# Altium integrated library Maxim Video Buffer Amplifier.IntLib: 8 symbols
Pins are listed as number, name and electrical type; pins without a type are passive.

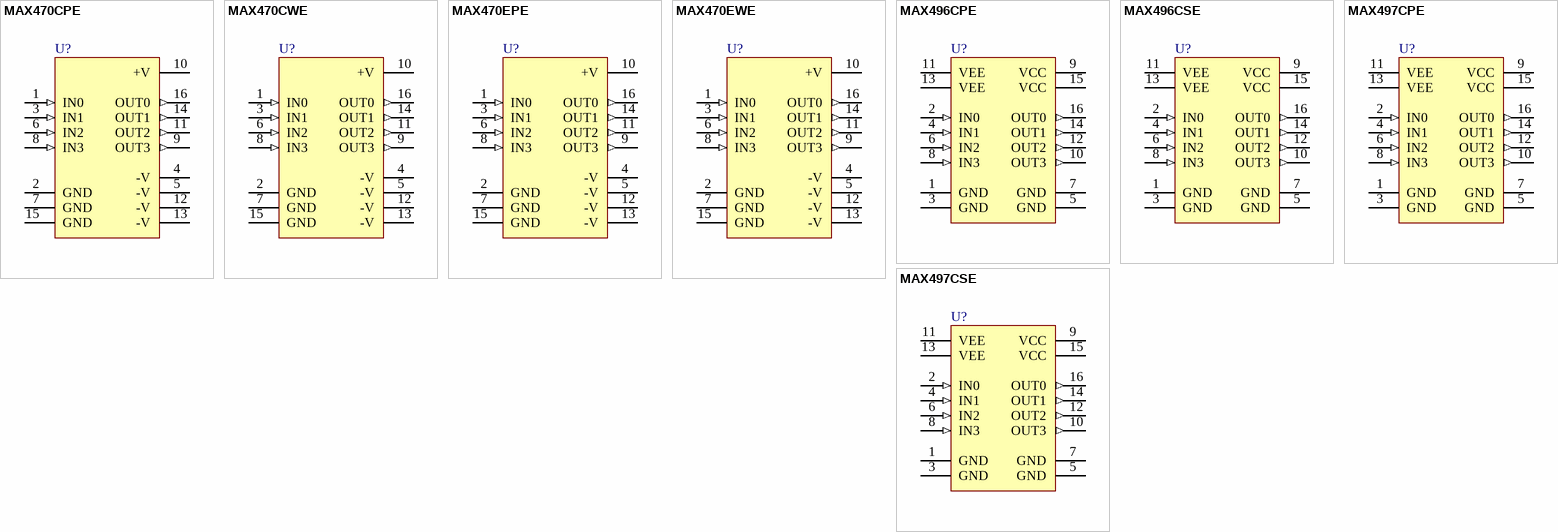
[diagram p0: symbols MAX470CPE to MAX497CSE]

## MAX470CPE
designator U?
Two-Channel, Quad RGB Video Switch and Buffer; Published: 16-Jan-2001; LatestRevisionDate: 29-May-2009; LatestRevisionNote: Component Body Added.; DatasheetVersion: Jun-1994; PackageVersion: 1997; PackageReference: PE16A; Publisher: Altium Limited; PackageDescription: DIP, 16-Pin, Row Spacing 7.62 mm, Pitch 2.54 mm; Code_JEDEC: MS-001-BB; ComponentLink1Description: Manufacturer Link; ComponentLink1URL: http://www.maxim-ic.com/
footprint PE16A (DIP, 16-Leads, Row Spacing 7.62mm, Pitch 2.54mm, Body 19.18x6.99mm)
3D model PE16 (DIP, 16-Pin, Row Spacing 7.62 mm, Pitch 2.54 mm)
pins: 1 IN0 (in), 2 GND (power), 3 IN1 (in), 4 -V (power), 5 -V (power), 6 IN2 (in), 7 GND (power), 8 IN3 (in), 9 OUT3 (out), 10 +V (power), 11 OUT2 (out), 12 -V (power), 13 -V (power), 14 OUT1 (out), 15 GND (power), 16 OUT0 (out)

## MAX470CWE
designator U?
Two-Channel, Quad RGB Video Switch and Buffer; Published: 16-Jan-2001; LatestRevisionDate: 13-Apr-2006; LatestRevisionNote: IPC-7351 Footprint Added.; DatasheetVersion: Jun-1994; PackageReference: WSO16; Publisher: Altium Limited; PackageDescription: 16-Pin Small Outline Integrated Circuit 1.27 mm Pitch; Code_JEDEC: MS-013-AA; Code_IPC: SOIC127P1030-16; ComponentLink1Description: Manufacturer Link; ComponentLink1URL: http://www.maxim-ic.com/
footprint WSO16_N (SOIC, 16-Leads, Body 10.3x7.5mm, Pitch 1.27mm, IPC Medium Density)
footprint WSO16_L (SOIC, 16-Leads, Body 10.3x7.5mm, Pitch 1.27mm, IPC High Density)
footprint WSO16_M (SOIC, 16-Leads, Body 10.3x7.5mm, Pitch 1.27mm, IPC Low Density)
3D model WSO16 (16-Pin Small Outline Integrated Circuit 1.27 mm Pitch)
pins: 1 IN0 (in), 2 GND (power), 3 IN1 (in), 4 -V (power), 5 -V (power), 6 IN2 (in), 7 GND (power), 8 IN3 (in), 9 OUT3 (out), 10 +V (power), 11 OUT2 (out), 12 -V (power), 13 -V (power), 14 OUT1 (out), 15 GND (power), 16 OUT0 (out)

## MAX470EPE
designator U?
Two-Channel, Quad RGB Video Switch and Buffer; Published: 16-Jan-2001; LatestRevisionDate: 29-May-2009; LatestRevisionNote: Component Body Added.; DatasheetVersion: Jun-1994; PackageVersion: 1997; PackageReference: PE16A; Publisher: Altium Limited; PackageDescription: DIP, 16-Pin, Row Spacing 7.62 mm, Pitch 2.54 mm; Code_JEDEC: MS-001-BB; ComponentLink1Description: Manufacturer Link; ComponentLink1URL: http://www.maxim-ic.com/
footprint PE16A (DIP, 16-Leads, Row Spacing 7.62mm, Pitch 2.54mm, Body 19.18x6.99mm)
3D model PE16 (DIP, 16-Pin, Row Spacing 7.62 mm, Pitch 2.54 mm)
pins: 1 IN0 (in), 2 GND (power), 3 IN1 (in), 4 -V (power), 5 -V (power), 6 IN2 (in), 7 GND (power), 8 IN3 (in), 9 OUT3 (out), 10 +V (power), 11 OUT2 (out), 12 -V (power), 13 -V (power), 14 OUT1 (out), 15 GND (power), 16 OUT0 (out)

## MAX470EWE
designator U?
Two-Channel, Quad RGB Video Switch and Buffer; Published: 16-Jan-2001; LatestRevisionDate: 13-Apr-2006; LatestRevisionNote: IPC-7351 Footprint Added.; DatasheetVersion: Jun-1994; PackageReference: WSO16; Publisher: Altium Limited; PackageDescription: 16-Pin Small Outline Integrated Circuit 1.27 mm Pitch; Code_JEDEC: MS-013-AA; Code_IPC: SOIC127P1030-16; ComponentLink1Description: Manufacturer Link; ComponentLink1URL: http://www.maxim-ic.com/
footprint WSO16_N (SOIC, 16-Leads, Body 10.3x7.5mm, Pitch 1.27mm, IPC Medium Density)
footprint WSO16_L (SOIC, 16-Leads, Body 10.3x7.5mm, Pitch 1.27mm, IPC High Density)
footprint WSO16_M (SOIC, 16-Leads, Body 10.3x7.5mm, Pitch 1.27mm, IPC Low Density)
3D model WSO16 (16-Pin Small Outline Integrated Circuit 1.27 mm Pitch)
pins: 1 IN0 (in), 2 GND (power), 3 IN1 (in), 4 -V (power), 5 -V (power), 6 IN2 (in), 7 GND (power), 8 IN3 (in), 9 OUT3 (out), 10 +V (power), 11 OUT2 (out), 12 -V (power), 13 -V (power), 14 OUT1 (out), 15 GND (power), 16 OUT0 (out)

## MAX496CPE
designator U?
Quad Closed-Loop Video Buffer; Published: 23-Sep-2002; LatestRevisionDate: 29-May-2009; LatestRevisionNote: Component Body Added.; DatasheetVersion: Rev 1; 12/98; PackageVersion: Aug-1995; PackageReference: PE16B; Publisher: Altium Limited; PackageDescription: DIP, 16-Pin, Row Spacing 7.62 mm, Pitch 2.54 mm; Code_JEDEC: MS-001-BB; ComponentLink1Description: Manufacturer Link; ComponentLink1URL: http://www.maxim-ic.com/; ComponentLink2Description: Datasheet; ComponentLink2URL: http://pdfserv.maxim-ic.com/en/ds/MAX496-MAX497.pdf
footprint PE16B (DIP, 16-Leads, Row Spacing 7.62mm, Pitch 2.54mm, Body 19.18x6.61mm)
3D model PE16 (DIP, 16-Pin, Row Spacing 7.62 mm, Pitch 2.54 mm)
pins: 1 GND (power), 2 IN0 (in), 3 GND (power), 4 IN1 (in), 5 GND (power), 6 IN2 (in), 7 GND (power), 8 IN3 (in), 9 VCC (power), 10 OUT3 (out), 11 VEE (power), 12 OUT2 (out), 13 VEE (power), 14 OUT1 (out), 15 VCC (power), 16 OUT0 (out)

## MAX496CSE
designator U?
Quad Closed-Loop Video Buffer; Published: 23-Sep-2002; LatestRevisionDate: 13-Apr-2006; LatestRevisionNote: IPC-7351 Footprint Added.; DatasheetVersion: Rev 1; 12/98; PackageReference: NSO16; Publisher: Altium Limited; PackageDescription: 16-Pin Small Outline Integrated Circuit 1.27 mm Pitch; Code_JEDEC: MS-012-AC; Code_IPC: SOIC127P600-16; ComponentLink1Description: Manufacturer Link; ComponentLink1URL: http://www.maxim-ic.com/; ComponentLink2Description: Datasheet; ComponentLink2URL: http://pdfserv.maxim-ic.com/en/ds/MAX496-MAX497.pdf
footprint NSO16_N (SOIC, 16-Leads, Body 9.9x3.9mm, Pitch 1.27mm, IPC Medium Density)
footprint NSO16_L (SOIC, 16-Leads, Body 9.9x3.9mm, Pitch 1.27mm, IPC High Density)
footprint NSO16_M (SOIC, 16-Leads, Body 9.9x3.9mm, Pitch 1.27mm, IPC Low Density)
3D model NSO16 (16-Pin Small Outline Integrated Circuit 1.27 mm Pitch)
pins: 1 GND (power), 2 IN0 (in), 3 GND (power), 4 IN1 (in), 5 GND (power), 6 IN2 (in), 7 GND (power), 8 IN3 (in), 9 VCC (power), 10 OUT3 (out), 11 VEE (power), 12 OUT2 (out), 13 VEE (power), 14 OUT1 (out), 15 VCC (power), 16 OUT0 (out)

## MAX497CPE
designator U?
Quad Closed-Loop Video Buffer; Published: 23-Sep-2002; LatestRevisionDate: 29-May-2009; LatestRevisionNote: Component Body Added.; DatasheetVersion: Rev 1; 12/98; PackageVersion: Aug-1995; PackageReference: PE16B; Publisher: Altium Limited; PackageDescription: DIP, 16-Pin, Row Spacing 7.62 mm, Pitch 2.54 mm; Code_JEDEC: MS-001-BB; ComponentLink1Description: Manufacturer Link; ComponentLink1URL: http://www.maxim-ic.com/; ComponentLink2Description: Datasheet; ComponentLink2URL: http://pdfserv.maxim-ic.com/en/ds/MAX496-MAX497.pdf
footprint PE16B (DIP, 16-Leads, Row Spacing 7.62mm, Pitch 2.54mm, Body 19.18x6.61mm)
3D model PE16 (DIP, 16-Pin, Row Spacing 7.62 mm, Pitch 2.54 mm)
pins: 1 GND (power), 2 IN0 (in), 3 GND (power), 4 IN1 (in), 5 GND (power), 6 IN2 (in), 7 GND (power), 8 IN3 (in), 9 VCC (power), 10 OUT3 (out), 11 VEE (power), 12 OUT2 (out), 13 VEE (power), 14 OUT1 (out), 15 VCC (power), 16 OUT0 (out)

## MAX497CSE
designator U?
Quad Closed-Loop Video Buffer; Published: 23-Sep-2002; LatestRevisionDate: 13-Apr-2006; LatestRevisionNote: IPC-7351 Footprint Added.; DatasheetVersion: Rev 1; 12/98; PackageReference: NSO16; Publisher: Altium Limited; PackageDescription: 16-Pin Small Outline Integrated Circuit 1.27 mm Pitch; Code_JEDEC: MS-012-AC; Code_IPC: SOIC127P600-16; ComponentLink1Description: Manufacturer Link; ComponentLink1URL: http://www.maxim-ic.com/; ComponentLink2Description: Datasheet; ComponentLink2URL: http://pdfserv.maxim-ic.com/en/ds/MAX496-MAX497.pdf
footprint NSO16_N (SOIC, 16-Leads, Body 9.9x3.9mm, Pitch 1.27mm, IPC Medium Density)
footprint NSO16_L (SOIC, 16-Leads, Body 9.9x3.9mm, Pitch 1.27mm, IPC High Density)
footprint NSO16_M (SOIC, 16-Leads, Body 9.9x3.9mm, Pitch 1.27mm, IPC Low Density)
3D model NSO16 (16-Pin Small Outline Integrated Circuit 1.27 mm Pitch)
pins: 1 GND (power), 2 IN0 (in), 3 GND (power), 4 IN1 (in), 5 GND (power), 6 IN2 (in), 7 GND (power), 8 IN3 (in), 9 VCC (power), 10 OUT3 (out), 11 VEE (power), 12 OUT2 (out), 13 VEE (power), 14 OUT1 (out), 15 VCC (power), 16 OUT0 (out)